# Altium footprint library flatsat_platform_2.PcbLib: 76 footprints (part 1 of 5)
Each footprint in its own frame and in the unit in brackets; x right, y up, seen from the top. Pads: shape width x height; smd on the part's side, far side on the other; paste and mask are expansions set on the pad; w line width, h text height; cw(c..) or ccw(c..) is an arc to the next point about the centre after c.
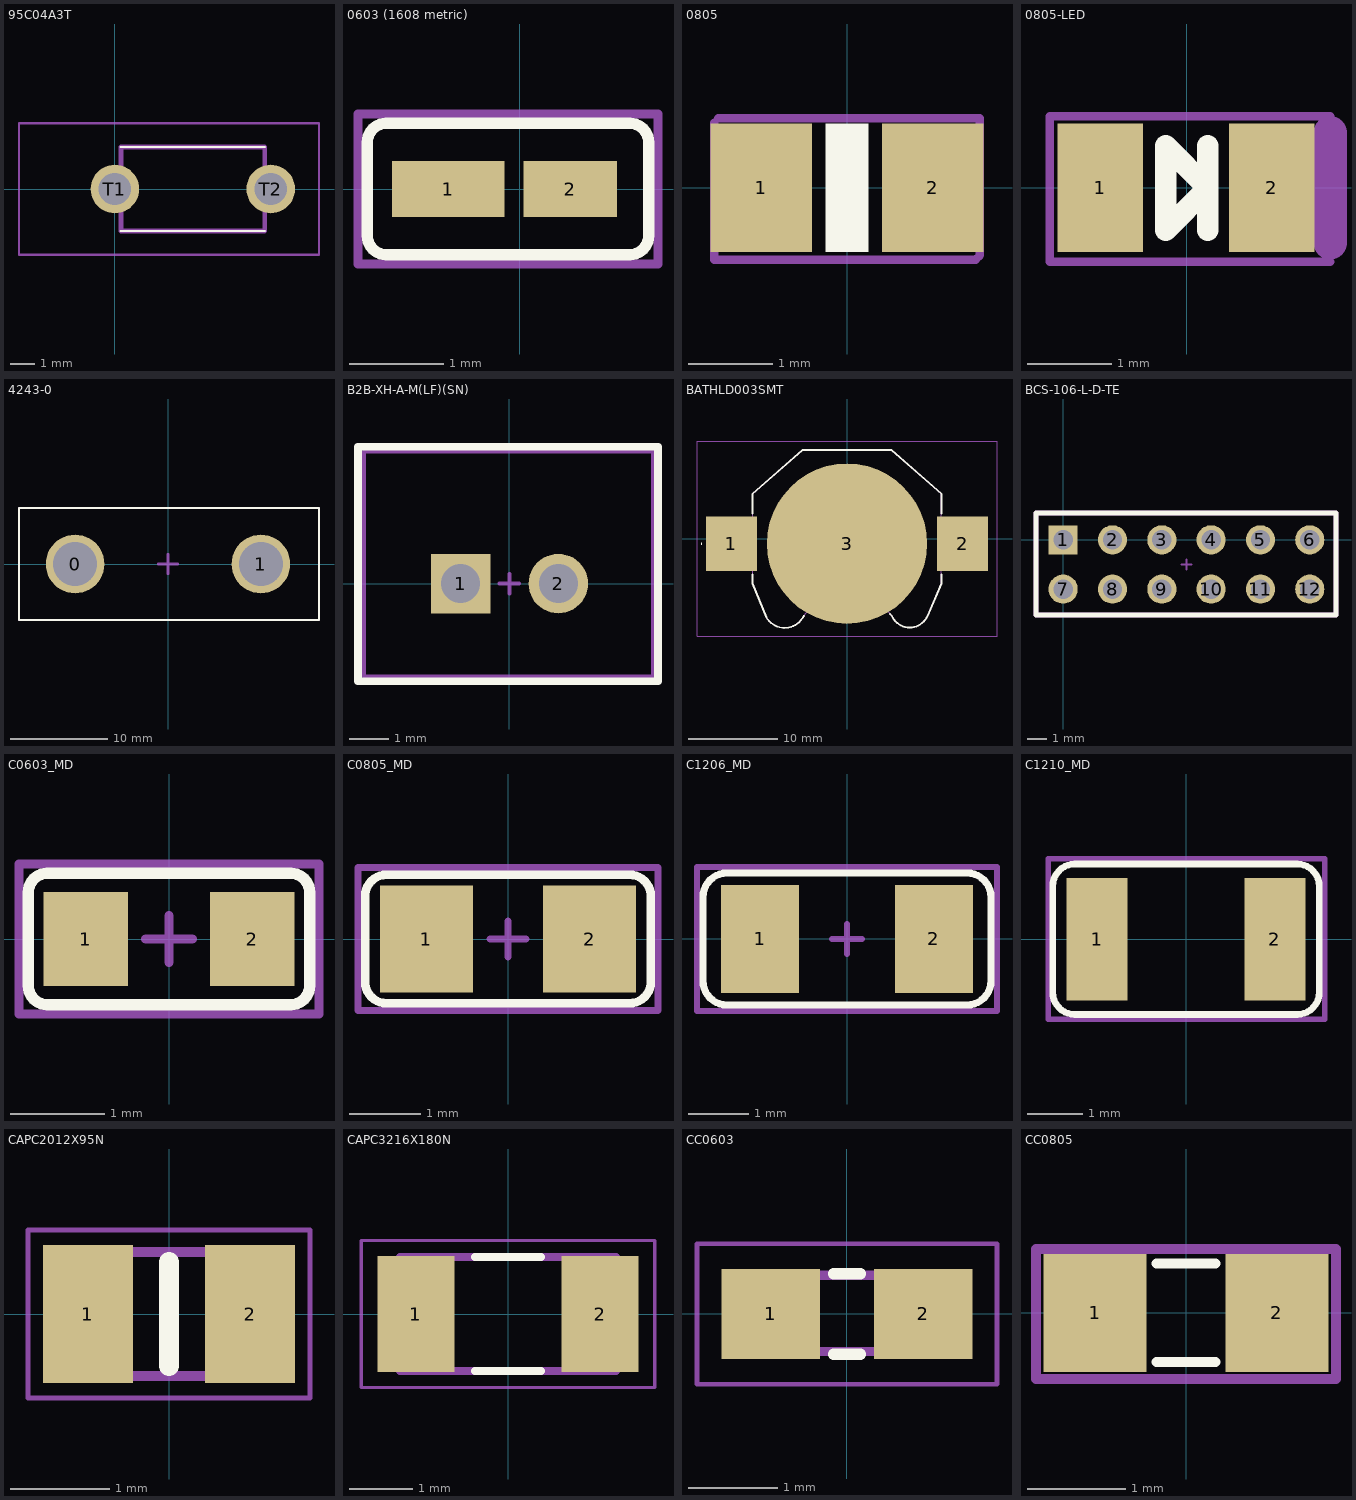
[diagram p0: the footprints below, top view; thin cyan lines are the x and y axes]

## 95C04A3T [mm]
pads (2):
  round 2.025 hole 1.35: T1(0,0) T2(6.5,0)
Top Overlay:
  lines w0.1: 0.25,-1.75 6.25,-1.75 ; 0.25,1.75 6.25,1.75
Mechanical 13:
  lines w0.2: 0.25,-1.75 6.25,-1.75 6.25,1.75 0.25,1.75 0.25,-1.75
Mechanical 15:
  lines w0.1: -4,-2.75 8.512,-2.75 8.512,2.75 -4,2.75 -4,-2.75
3D body "95C04A3T.stp": height 3.85, standoff -3.65, extent -0.686,-1.75 7.226,1.75

## 0603 (1608 metric) [mm]
height 0.55
pads (2):
  rect 1.2x0.6 smd mask+0.076: 1(-0.762,0)
  rect 1x0.6 smd mask+0.076: 2(0.538,0)
Top Overlay:
  lines w0.12: -1.627,-0.5 ccw(c-1.427,-0.5) -1.427,-0.7 1.173,-0.7 ccw(c1.173,-0.5) 1.373,-0.5 1.373,0.5 ccw(c1.173,0.5) 1.173,0.7 -1.427,0.7 ccw(c-1.427,0.5) -1.627,0.5 -1.627,-0.5
Top Assembly:
  lines w0.1: -1.727,-0.8 -1.727,0.8 1.473,0.8 1.473,-0.8 -1.727,-0.8
  text "'.Designator'" at -1.524,1.524 h0.8
3D body "C0603.step": height 0.79, standoff 0, extent -1.127,-0.394 0.873,0.394

## 0805 [mil]
pads (2):
  rect 47.24x60 smd: 1(-40,0) 2(40,0)
Top Overlay:
  rectangle: -10,-30 10,30
Mechanical 15:
  lines w3.94: -62.01,30.51 -62.01,-33.46 60.04,-33.46 62.01,-31.5 62.01,32.48 -60.04,32.48
  text ".Designator" at -58.7,-2.44 h19.68
3D body "RES0805(2012M).STEP": height 31.1, standoff 0, extent -50,-24.49 48.75,24.51

## 0805-LED [mil]
height 122.05
pads (2):
  rect 40x60 smd: 1(-40.35,0) 2(39.65,0)
Top Overlay:
  lines w10: 9.84,-19.68 9.84,19.68 ; -9.84,-19.68 9.84,0 -9.84,19.68 -9.84,-19.68
Mechanical 15:
  lines w3.94: 66.93,-34.45 -63.98,-34.45 -63.98,33.46 66.93,33.46
  lines w15.75: 66.93,-25.59 66.93,25.59
  text ".Designator" at -41.34,-1.97 h19.68
3D body "User Library-led_0805LED0805_red.STEP": height 43.31, standoff 0, extent -39.76,-24.6 39.77,24.61

## 4243-0 [mm]
pads (2):
  round 6 hole 4.5: 0(-9.525,0) 1(9.525,0)
Top Overlay:
  lines w0.2: -15.275,-5.75 -15.275,5.75 15.475,5.75 15.475,-5.75 -15.275,-5.75
Top Assembly:
  lines w0.2: -15.275,-5.75 -15.275,5.75 15.475,5.75 15.475,-5.75 -15.275,-5.75
  lines w0.3: -1,0 1,0 ; 0,-1 0,1
  text "'.Designator'" at -6.525,2.5 h1.2
3D body: height 24.13, standoff 0, extent 3.925,-5.597 15.125,5.597
3D body: height 6, standoff 0, extent -15.125,-5.597 15.275,5.597
3D body: height 24.13, standoff 0, extent -15.125,-5.597 -3.925,5.597

## B2B-XH-A-M(LF)(SN) [mm]
pads (2):
  rect 1.524x1.524 hole 1: 1(-1.25,0)
  round 1.524 hole 1: 2(1.25,0)
Top Overlay:
  lines w0.2: -3.875,-2.5 3.8,-2.5 3.8,3.5 -3.875,3.5 -3.875,0.5 -3.875,-2.5
Top Assembly:
  lines w0.1: -0.25,0 0.25,0 ; 0,-0.25 0,0.25 ; -3.725,-2.375 3.675,-2.375 3.675,3.375 -3.725,3.375 -3.725,2.875 -3.725,-2.375
  text "'.Designator'" at -2.5,1.25 h1.2
3D body "B2B-XH-A(LF)(SN)--3DModel-STEP-56544.STEP": height 7.01, standoff -3.39, extent -3.753,-2.376 3.647,3.374

## BATHLD003SMT [mm]
pads (3):
  rect 5.7x6.1 smd: 1(-12.9,-0.55) 2(12.9,-0.55)
  round 17.9 smd: 3(0,-0.55)
Top Overlay:
  lines w0.1: -16.3,-0.55 ccw(c-16.25,-0.55) -16.2,-0.55 ccw(c-16.25,-0.55) -16.3,-0.55
  lines w0.2: -10.55,-4 -10.55,-5 -9,-8.8 ; -10.55,2.8 -10.55,5 -5,9.9 5,9.9 10.55,5 10.55,2.8 ; -9,-8.799 ccw(c-6.969,-7.588) -5.001,-8.9 -4.8,-8.6 ; 4.8,-8.4 5,-8.6 ; 5,-8.6 ccw(c7,-7.739) 8.999,-8.6 ; 9,-8.6 10.55,-5 10.55,-4
Mechanical 13:
  lines w0.1: -9,-8.8 -10.55,-5 -10.55,5 -5,9.9 0,9.9 5,9.9 10.55,5 10.55,-5 9,-8.6 ; -8.999,-8.801 ccw(c-6.966,-7.495) -4.998,-8.899 ; -5,-8.9 -4,-7.5 ; -4.005,-7.506 cw(c-0.001,-11.137) 3.998,-7.499 ; 4,-7.5 5,-8.6 ; 5,-8.6 ccw(c7,-7.739) 8.999,-8.6
Mechanical 15:
  lines w0.1: -16.75,-10.916 -16.75,10.9 16.75,10.9 16.75,-10.916 -16.75,-10.916
3D body "BAT-HLD-003-SMT.stp": height 4, standoff 0.1, extent -15.32,-9.92 15.18,9.88

## BCS-106-L-D-TE [mm]
pads (12):
  rect 1.5x1.5 hole 1: 1(0,0)
  round 1.5 hole 1: 2(2.54,0) 3(5.08,0) 4(7.62,0) 5(10.16,0) 6(12.7,0) 7(0,-2.54) 8(2.54,-2.54) 9(5.08,-2.54) 10(7.62,-2.54) 11(10.16,-2.54) 12(12.7,-2.54)
Top Overlay:
  lines w0.254: -1.4,-3.87 -1.4,-1.27 -1.4,1.38 14.05,1.38 14.05,-3.87 -1.4,-3.87
Top Assembly:
  lines w0.1: 6.1,-1.27 6.6,-1.27 ; 6.35,-1.52 6.35,-1.02
  lines w0.254: -1.4,-3.87 -1.4,-1.27 -1.4,1.38 14.05,1.38 14.05,-3.87 -1.4,-3.87
  text "'.Designator'" at 0.25,-2.87 h0.8
3D body "BCS-106-L-D-TE.stp": height 7.38, standoff -3.09, extent -1.27,-3.81 13.97,1.27

## C0603_MD [mm] "Chip Capacitor, Body 1.6x0.8mm, IPC Medium Density"
height 0.85
pads (2):
  rect 0.9x1 smd: 1(-0.889,0) 2(0.889,0)
Top Overlay:
  lines w0.12: -1.5,-0.5 ccw(c-1.3,-0.5) -1.3,-0.7 1.3,-0.7 ccw(c1.3,-0.5) 1.5,-0.5 1.5,0.5 ccw(c1.3,0.5) 1.3,0.7 -1.3,0.7 ccw(c-1.3,0.5) -1.5,0.5 -1.5,-0.5
Top Assembly:
  lines w0.1: -0.25,0 0.25,0 ; 0,-0.25 0,0.25 ; -1.6,-0.8 1.6,-0.8 1.6,0.8 -1.6,0.8 -1.6,-0.8
  text "'.Designator'" at -1.5,-0.5 h0.8
3D body "C0603.step": height 0.79, standoff 0, extent -1,-0.406 1,0.381

## C0805_MD [mm] "Chip Capacitor, Body 2.0x1.3mm, IPC Medium Density"
height 1.1
pads (2):
  rect 1.3x1.5 smd: 1(-1.143,0) 2(1.143,0)
Top Overlay:
  lines w0.12: -2,-0.6 ccw(c-1.7,-0.6) -1.7,-0.9 1.7,-0.9 ccw(c1.7,-0.6) 2,-0.6 2,0.6 ccw(c1.7,0.6) 1.7,0.9 -1.7,0.9 ccw(c-1.7,0.6) -2,0.6 -2,-0.6
Top Assembly:
  lines w0.1: -0.25,0 0.25,0 ; 0,-0.25 0,0.25 ; -2.1,-1 -2.1,1 2.1,1 2.1,-1 -2.1,-1
  text "'.Designator'" at -1.8,-0.7 h0.8
3D body "C0805.step": height 0.79, standoff 0, extent -1.254,-0.61 1.254,0.635

## C1206_MD [mm] "Chip Capacitor, Body 3.2x1.6mm, IPC Medium Density"
height 1.35
pads (2):
  rect 1.3x1.8 smd: 1(-1.45,0) 2(1.45,0)
Top Overlay:
  lines w0.12: -2.4,-0.7 ccw(c-2,-0.7) -2,-1.1 2,-1.1 ccw(c2,-0.7) 2.4,-0.7 2.4,0.7 ccw(c2,0.7) 2,1.1 -2,1.1 ccw(c-2,0.7) -2.4,0.7 -2.4,-0.7
Top Assembly:
  lines w0.1: -0.25,0 0.25,0 ; 0,-0.25 0,0.25 ; -2.5,-1.2 2.5,-1.2 2.5,1.2 -2.5,1.2 -2.5,-1.2
  text "'.Designator'" at -2,-1 h0.8
3D body "C1206.step": height 1.53, standoff 0, extent -2,-0.813 2,0.788

## C1210_MD [mm] "TDK mlccspec_commercial_general_midvoltage_en.pdf"
height 2.5
pads (2):
  rect 1.1x2.2 smd: 1(-1.6,0) 2(1.6,0)
Top Overlay:
  lines w0.12: -2.4,0.947 -2.4,-0.954 ccw(c-2,-0.954) -2,-1.354 2,-1.354 ccw(c2,-0.954) 2.4,-0.954 2.4,0.953 ; -2.4,0.954 cw(c-2,0.954) -2,1.354 2,1.354 cw(c2,0.954) 2.4,0.954
Mechanical 15:
  lines w0.1: -2.48,-1.441 2.496,-1.441 2.496,1.45 -2.48,1.45 -2.48,-1.441
  text ".Designator" at -1.66,0.01 h0.5
3D body "CC1210(3225M).STEP": height 1.69, standoff -0.01, extent -2,-1.244 2,1.245

## CAPC2012X95N [mm]
pads (2):
  rect 0.91x1.39 smd: 1(-0.82,0) 2(0.82,0)
Top Overlay:
  lines w0.2: 0,-0.525 0,0.525
Mechanical 13:
  lines w0.1: -1,-0.625 -1,0.625 1,0.625 1,-0.625 -1,-0.625
Mechanical 15:
  lines w0.05: -1.425,-0.85 -1.425,0.85 1.425,0.85 1.425,-0.85 -1.425,-0.85
3D body "CL21B104KBCNNND.stp": height 0.95, standoff 0, extent -1,-0.625 1,0.625

## CAPC3216X180N [mm]
pads (2):
  rect 1.21x1.82 smd: 1(-1.45,0) 2(1.45,0)
Top Overlay:
  lines w0.127: -0.52,-0.9 0.52,-0.9 ; -0.52,0.9 0.52,0.9
Mechanical 13:
  lines w0.127: -1.7,-0.9 1.7,-0.9 1.7,0.9 -1.7,0.9 -1.7,-0.9
Mechanical 15:
  lines w0.05: -2.308,-1.158 2.308,-1.158 2.308,1.158 -2.308,1.158 -2.308,-1.158
3D body "GRT31CR61H106KE01L.STEP": height 1.61, standoff 0.01, extent -1.6,-0.889 1.6,0.911

## CC0603 [mm]
pads (2):
  rect 1.1x1 smd: 1(-0.85,0) 2(0.85,0)
Top Overlay:
  lines w0.127: -0.15,-0.45 0.15,-0.45 ; -0.15,0.45 0.15,0.45
Mechanical 13:
  region: 0.83,-0.471 0.331,-0.471 0.331,0.48 0.83,0.48
  region: -0.338,-0.47 -0.839,-0.47 -0.839,0.48 -0.338,0.48
  lines w0.102: -0.356,-0.419 0.356,-0.419 ; -0.356,0.432 0.356,0.432
Mechanical 15:
  lines w0.051: -1.673,-0.783 -1.673,0.783 1.673,0.783 1.673,-0.783 -1.673,-0.783
3D body "C0603.step": height 0.79, standoff 0, extent -1,-0.406 1,0.381

## CC0805 [mm] "TDK mlccspec_commercial_general_midvoltage_en.pdf"
height 1.25
pads (2):
  rect 1.05x1.2 smd: 1(-0.925,0) 2(0.925,0)
Top Overlay:
  lines w0.1: -0.3,-0.5 0.3,-0.5 ; -0.3,0.5 0.3,0.5
Mechanical 15:
  lines w0.1: -1.525,-0.675 -1.525,0.65 1.525,0.65 1.525,-0.675 -1.525,-0.675
  text ".Designator" at -1.275,-0.075 h0.5
3D body "C0805.step": height 0.79, standoff 0, extent -1.254,-0.622 1.254,0.622